# EAGLE library part G2RG-2A-X (library PP_Electromechanical)
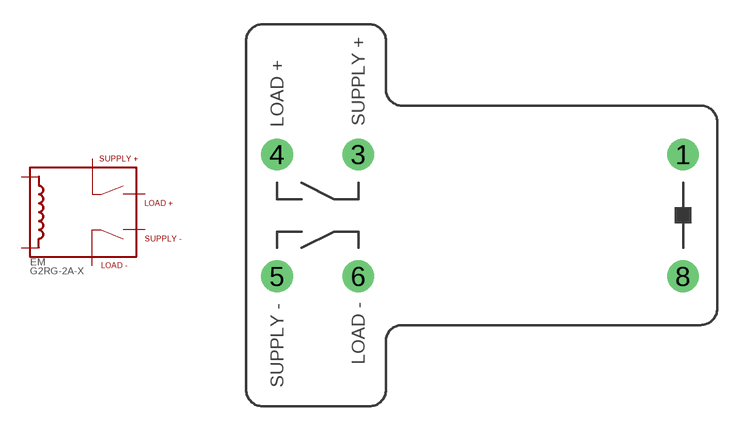
[diagram p8: symbol with the pads of G2RG-2A-X; footprint G2RG-2A-X]

Designator prefix EM

## G2RG-2A-X_12V (MPN: G2RG-2A-X DC12; POPULATE: 1)  [G2RG-2A-X]
1  1
3  3
4  4
5  5
6  6
8  8

## Footprint G2RG-2A-X (pad centres in mm)
drill 1.3: 1 20,3.75; 3 0,3.75; 4 -5,3.75; 5 -5,-3.75; 6 0,-3.75; 8 20,-3.75